# Altium footprint library QFN50P300X300X100-17N-D.PcbLib: 1 footprints
Each footprint in its own frame and in the unit in brackets; x right, y up, seen from the top. Pads: shape width x height; smd on the part's side, far side on the other; paste and mask are expansions set on the pad; w line width, h text height; cw(c..) or ccw(c..) is an arc to the next point about the centre after c.
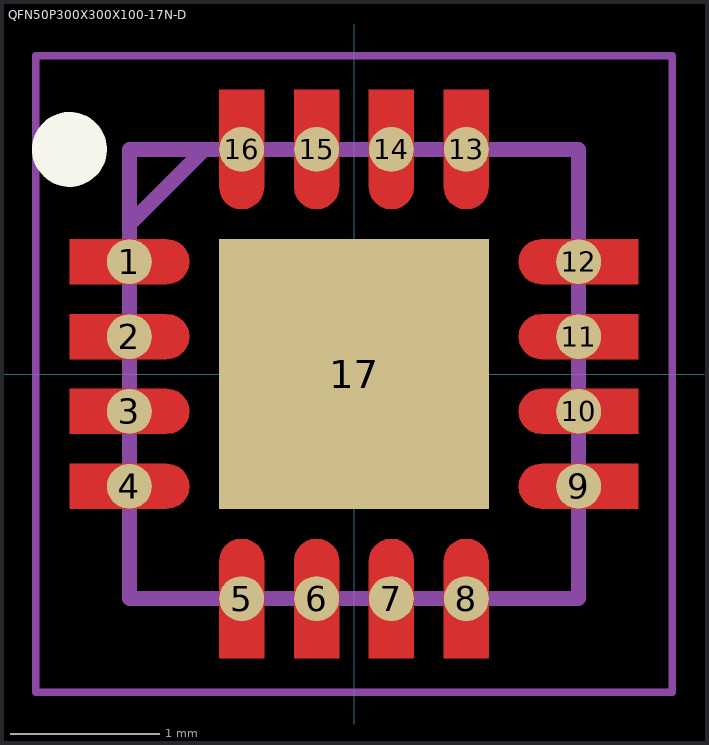
[diagram p0: the footprint, top view; thin cyan lines are the x and y axes]

## QFN50P300X300X100-17N-D [mm]
pads (17):
  round 0.3 smd: 1(-1.5,0.75) 2(-1.5,0.25) 3(-1.5,-0.25) 4(-1.5,-0.75) 5(-0.75,-1.5) 6(-0.25,-1.5) 7(0.25,-1.5) 8(0.75,-1.5) 9(1.5,-0.75) 10(1.5,-0.25) 11(1.5,0.25) 12(1.5,0.75) 13(0.75,1.5) 14(0.25,1.5) 15(-0.25,1.5) 16(-0.75,1.5)
  rect 1.8x1.8 smd: 17(0,0)
L1-Top Layer:
  region: -1.9,0.9 -1.25,0.9 -1.211,0.895 -1.175,0.88 -1.144,0.856 -1.12,0.825 -1.105,0.789 -1.1,0.75 -1.105,0.711 -1.12,0.675 -1.144,0.644 -1.175,0.62 -1.211,0.605 -1.25,0.6 -1.9,0.6
  region: -1.9,0.4 -1.25,0.4 -1.211,0.395 -1.175,0.38 -1.144,0.356 -1.12,0.325 -1.105,0.289 -1.1,0.25 -1.105,0.211 -1.12,0.175 -1.144,0.144 -1.175,0.12 -1.211,0.105 -1.25,0.1 -1.9,0.1
  region: -1.9,-0.1 -1.25,-0.1 -1.211,-0.105 -1.175,-0.12 -1.144,-0.144 -1.12,-0.175 -1.105,-0.211 -1.1,-0.25 -1.105,-0.289 -1.12,-0.325 -1.144,-0.356 -1.175,-0.38 -1.211,-0.395 -1.25,-0.4 -1.9,-0.4
  region: -1.9,-0.6 -1.25,-0.6 -1.211,-0.605 -1.175,-0.62 -1.144,-0.644 -1.12,-0.675 -1.105,-0.711 -1.1,-0.75 -1.105,-0.789 -1.12,-0.825 -1.144,-0.856 -1.175,-0.88 -1.211,-0.895 -1.25,-0.9 -1.9,-0.9
  region: -0.9,-1.9 -0.9,-1.25 -0.895,-1.211 -0.88,-1.175 -0.856,-1.144 -0.825,-1.12 -0.789,-1.105 -0.75,-1.1 -0.711,-1.105 -0.675,-1.12 -0.644,-1.144 -0.62,-1.175 -0.605,-1.211 -0.6,-1.25 -0.6,-1.9
  region: -0.4,-1.9 -0.4,-1.25 -0.395,-1.211 -0.38,-1.175 -0.356,-1.144 -0.325,-1.12 -0.289,-1.105 -0.25,-1.1 -0.211,-1.105 -0.175,-1.12 -0.144,-1.144 -0.12,-1.175 -0.105,-1.211 -0.1,-1.25 -0.1,-1.9
  region: 0.1,-1.9 0.1,-1.25 0.105,-1.211 0.12,-1.175 0.144,-1.144 0.175,-1.12 0.211,-1.105 0.25,-1.1 0.289,-1.105 0.325,-1.12 0.356,-1.144 0.38,-1.175 0.395,-1.211 0.4,-1.25 0.4,-1.9
  region: 0.6,-1.9 0.6,-1.25 0.605,-1.211 0.62,-1.175 0.644,-1.144 0.675,-1.12 0.711,-1.105 0.75,-1.1 0.789,-1.105 0.825,-1.12 0.856,-1.144 0.88,-1.175 0.895,-1.211 0.9,-1.25 0.9,-1.9
  region: 1.9,-0.9 1.25,-0.9 1.211,-0.895 1.175,-0.88 1.144,-0.856 1.12,-0.825 1.105,-0.789 1.1,-0.75 1.105,-0.711 1.12,-0.675 1.144,-0.644 1.175,-0.62 1.211,-0.605 1.25,-0.6 1.9,-0.6
  region: 1.9,-0.4 1.25,-0.4 1.211,-0.395 1.175,-0.38 1.144,-0.356 1.12,-0.325 1.105,-0.289 1.1,-0.25 1.105,-0.211 1.12,-0.175 1.144,-0.144 1.175,-0.12 1.211,-0.105 1.25,-0.1 1.9,-0.1
  region: 1.9,0.1 1.25,0.1 1.211,0.105 1.175,0.12 1.144,0.144 1.12,0.175 1.105,0.211 1.1,0.25 1.105,0.289 1.12,0.325 1.144,0.356 1.175,0.38 1.211,0.395 1.25,0.4 1.9,0.4
  region: 1.9,0.6 1.25,0.6 1.211,0.605 1.175,0.62 1.144,0.644 1.12,0.675 1.105,0.711 1.1,0.75 1.105,0.789 1.12,0.825 1.144,0.856 1.175,0.88 1.211,0.895 1.25,0.9 1.9,0.9
  region: 0.9,1.9 0.9,1.25 0.895,1.211 0.88,1.175 0.856,1.144 0.825,1.12 0.789,1.105 0.75,1.1 0.711,1.105 0.675,1.12 0.644,1.144 0.62,1.175 0.605,1.211 0.6,1.25 0.6,1.9
  region: 0.4,1.9 0.4,1.25 0.395,1.211 0.38,1.175 0.356,1.144 0.325,1.12 0.289,1.105 0.25,1.1 0.211,1.105 0.175,1.12 0.144,1.144 0.12,1.175 0.105,1.211 0.1,1.25 0.1,1.9
  region: -0.1,1.9 -0.1,1.25 -0.105,1.211 -0.12,1.175 -0.144,1.144 -0.175,1.12 -0.211,1.105 -0.25,1.1 -0.289,1.105 -0.325,1.12 -0.356,1.144 -0.38,1.175 -0.395,1.211 -0.4,1.25 -0.4,1.9
  region: -0.6,1.9 -0.6,1.25 -0.605,1.211 -0.62,1.175 -0.644,1.144 -0.675,1.12 -0.711,1.105 -0.75,1.1 -0.789,1.105 -0.825,1.12 -0.856,1.144 -0.88,1.175 -0.895,1.211 -0.9,1.25 -0.9,1.9
Top Overlay:
  circle w0.25: c-1.9,1.5 r0.125
Mechanical 15:
  lines w0.1: -1.5,1 -1,1.5 ; -1.5,-1.5 1.5,-1.5 1.5,1.5 -1.5,1.5 -1.5,-1.5
Mechanical 20:
  lines w0.05: -2.125,-2.125 2.125,-2.125 2.125,2.125 -2.125,2.125 -2.125,-2.125
3D body "MA710GQ-Z.stp": height 5.8, standoff -4.65, extent -10,-3.376 10,3.376